# Altium integrated library Lattice SC FPGA.IntLib: 396 symbols (part 3 of 3)
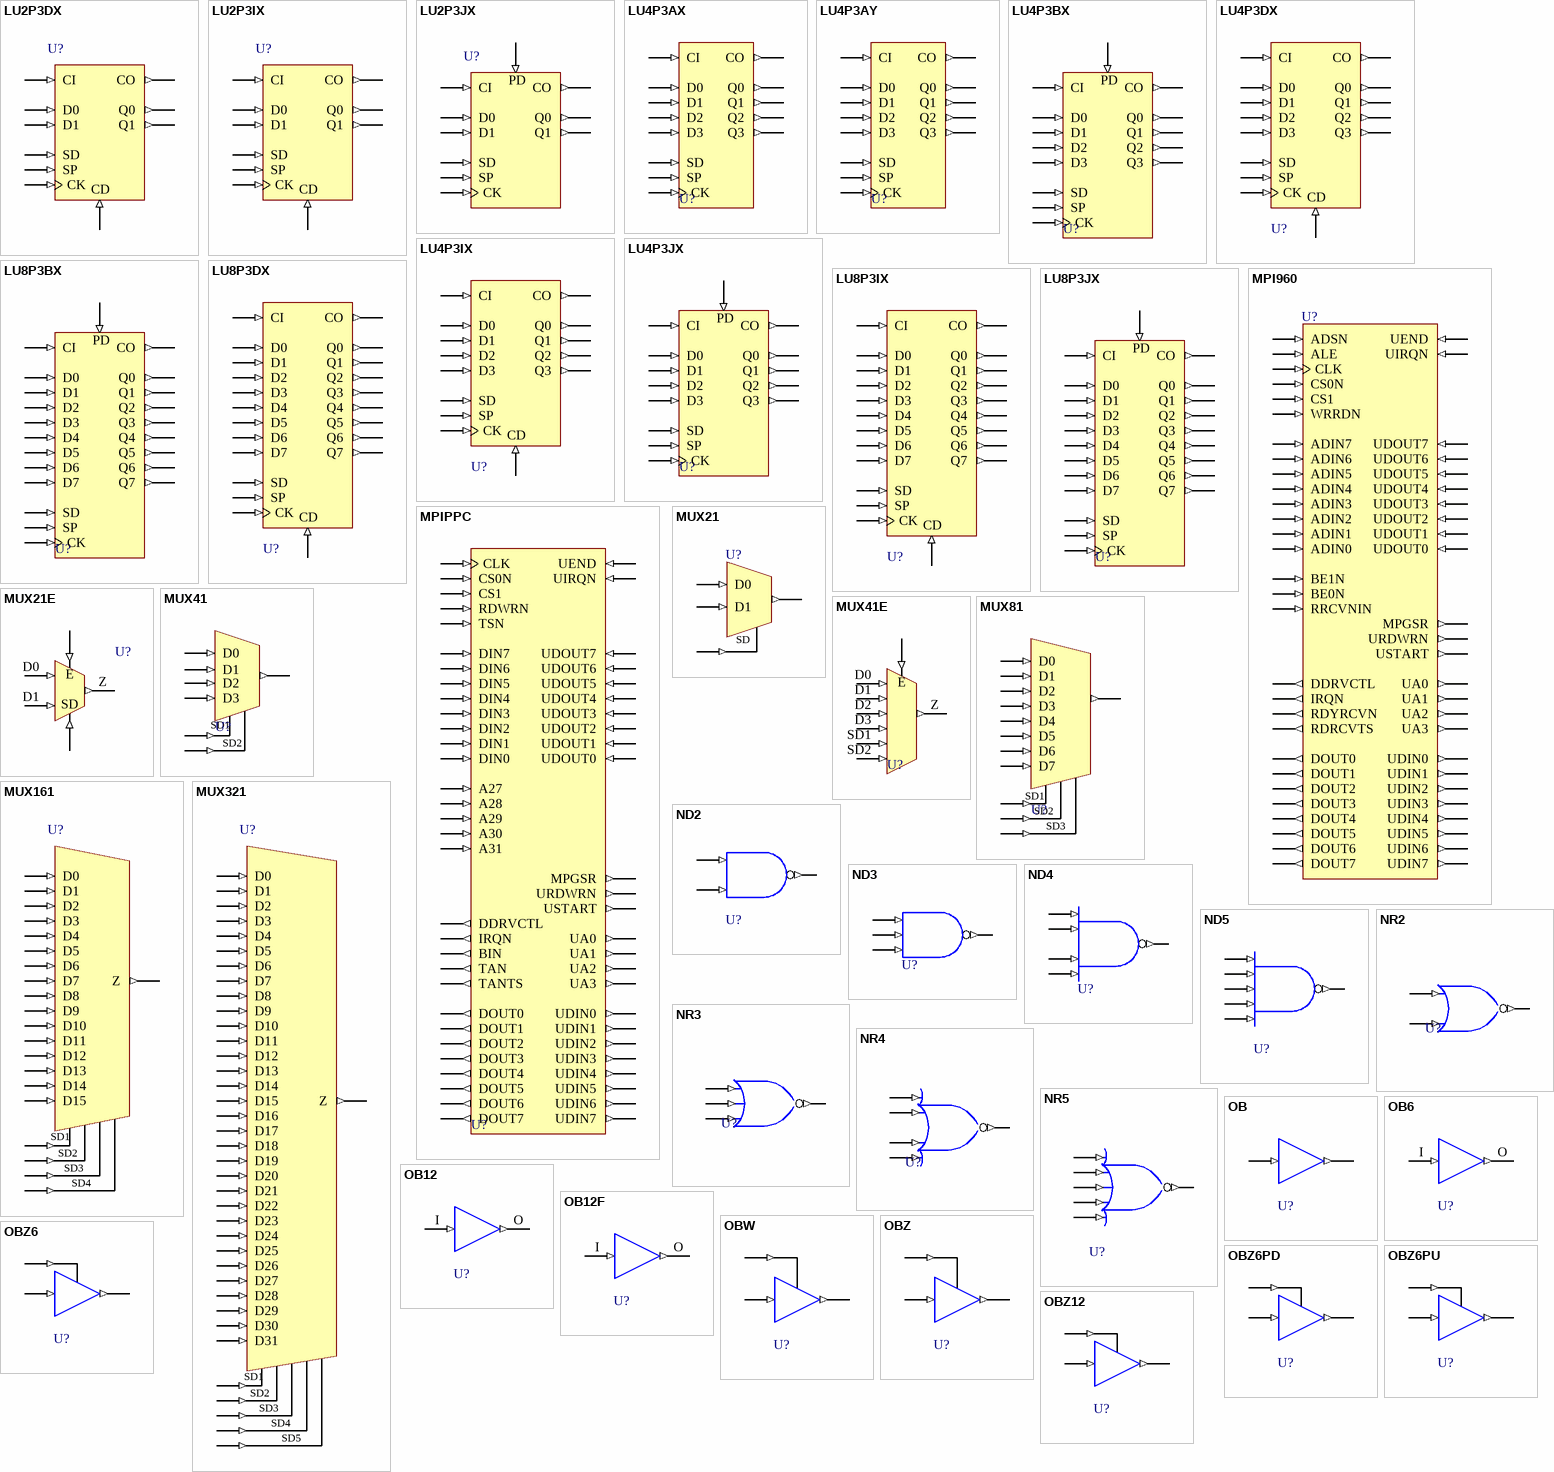
[diagram p12: symbols LU2P3DX to OBZ12]

## NR3
designator U?
3 Input NOR Gate; FPGAVendor: Lattice; Published: 4-May-2007; Publisher: Altium Limited; HelpURL: http://www.latticesemi.com/lit/docs/manuals/library.pdf
pins: A (in), B (in), C (in), Z (out)

## NR4
designator U?
4 Input NOR Gate; FPGAVendor: Lattice; Published: 4-May-2007; Publisher: Altium Limited; HelpURL: http://www.latticesemi.com/lit/docs/manuals/library.pdf
pins: A (in), B (in), C (in), D (in), Z (out)

## NR5
designator U?
5 Input NOR Gate; FPGAVendor: Lattice; Published: 4-May-2007; Publisher: Altium Limited; HelpURL: http://www.latticesemi.com/lit/docs/manuals/library.pdf
pins: A (in), B (in), C (in), D (in), E (in), Z (out)

## OB
designator U?
Output Tristate Buffer; FPGAVendor: Lattice; Published: 4-May-2007; Publisher: Altium Limited; HelpURL: http://www.latticesemi.com/lit/docs/manuals/library.pdf
pins: I (in), O (out)

## OB6
designator U?
6mA Sink 3mA Source Sinklim Output Buffer; FPGAVendor: Lattice; Published: 4-May-2007; Publisher: Altium Limited; HelpURL: http://www.latticesemi.com/lit/docs/manuals/library.pdf
pins: I (in), O (out)

## OB12
designator U?
12mA Sink 6mA Source Slewlim Output Buffer; FPGAVendor: Lattice; Published: 4-May-2007; Publisher: Altium Limited; HelpURL: http://www.latticesemi.com/lit/docs/manuals/library.pdf
pins: I (in), O (out)

## OB12F
designator U?
12mA Sink 6mA Source Fast Output Buffer; FPGAVendor: Lattice; Published: 4-May-2007; Publisher: Altium Limited; HelpURL: http://www.latticesemi.com/lit/docs/manuals/library.pdf
pins: I (in), O (out)

## OBW
designator U?
Output Buffer with Tristate; FPGAVendor: Lattice; Published: 4-May-2007; Publisher: Altium Limited; HelpURL: http://www.latticesemi.com/lit/docs/manuals/library.pdf
pins: I (in), O (out), T (in)

## OBZ
designator U?
Output Buffer with Tristate; FPGAVendor: Lattice; Published: 4-May-2007; Publisher: Altium Limited; HelpURL: http://www.latticesemi.com/lit/docs/manuals/library.pdf
pins: I (in), O (out), T (in)

## OBZ6
designator U?
6mA Sink 3mA Source Sinklim Output Buffer with Tristate; FPGAVendor: Lattice; Published: 4-May-2007; Publisher: Altium Limited; HelpURL: http://www.latticesemi.com/lit/docs/manuals/library.pdf
pins: I (in), O (out), T (in)

## OBZ6PD
designator U?
6mA Sink 3mA Source Sinklim Output Buffer with Tristate and Pull-down; FPGAVendor: Lattice; Published: 4-May-2007; Publisher: Altium Limited; HelpURL: http://www.latticesemi.com/lit/docs/manuals/library.pdf
pins: I (in), O (out), T (in)

## OBZ6PU
designator U?
6mA Sink 3mA Source Sinklim Output Buffer with Tristate and Pull-up; FPGAVendor: Lattice; Published: 4-May-2007; Publisher: Altium Limited; HelpURL: http://www.latticesemi.com/lit/docs/manuals/library.pdf
pins: I (in), O (out), T (in)

## OBZ12
designator U?
12mA Sink 6mA Source Slewlim Output Buffer with Tristate; FPGAVendor: Lattice; Published: 4-May-2007; Publisher: Altium Limited; HelpURL: http://www.latticesemi.com/lit/docs/manuals/library.pdf
pins: I (in), O (out), T (in)

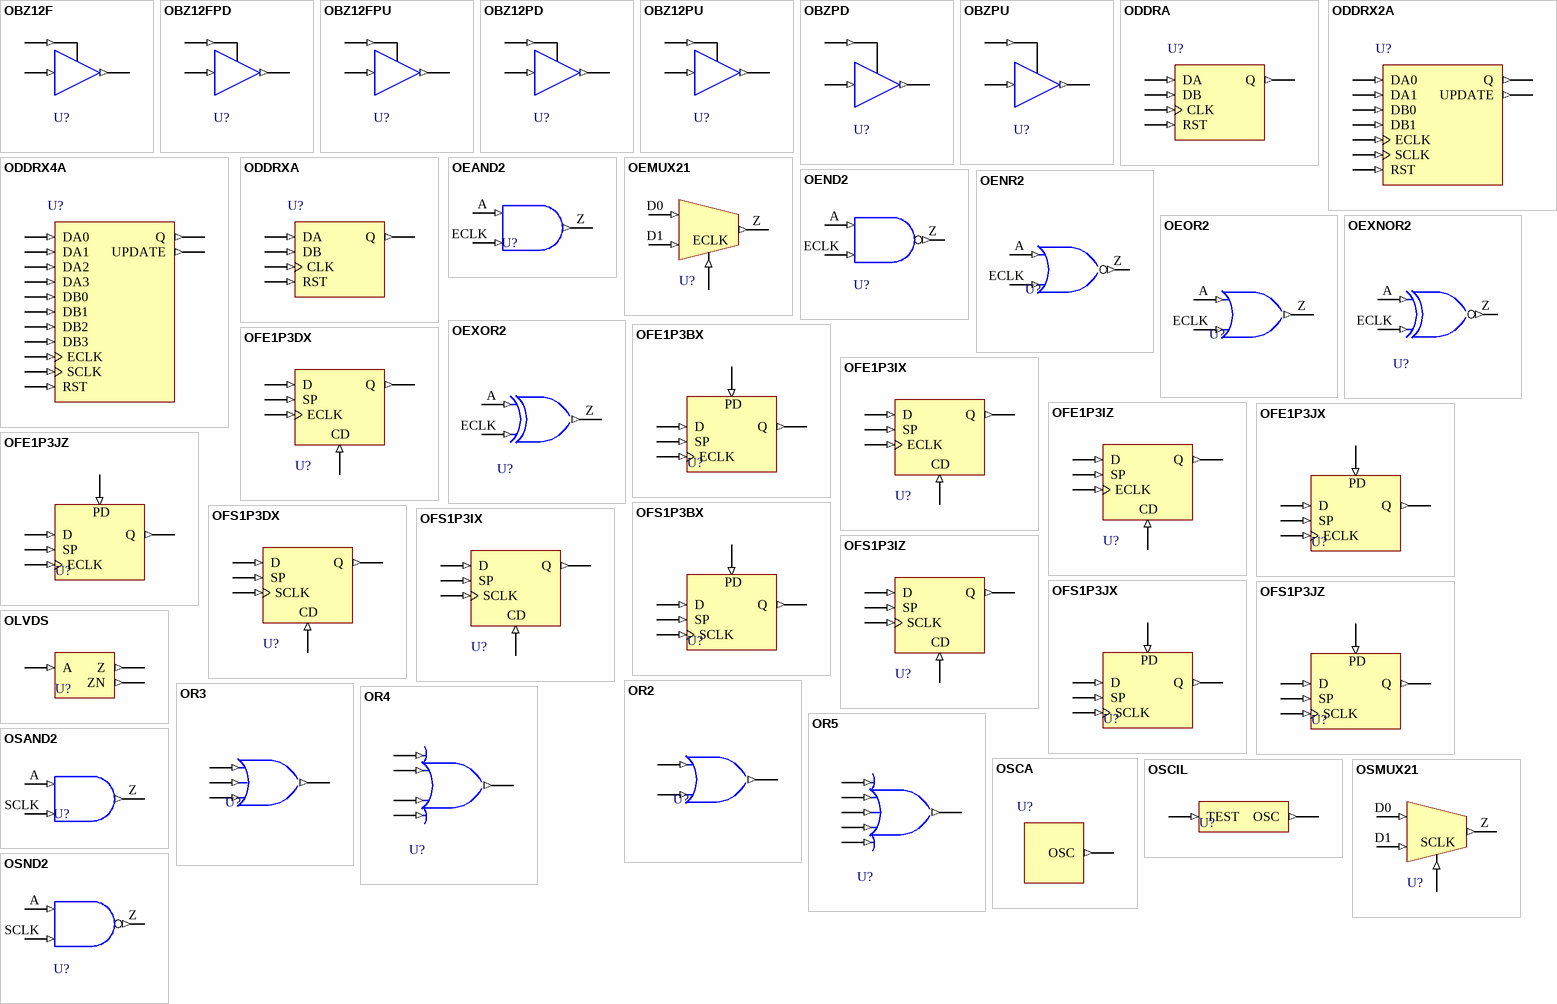
[diagram p8: symbols OBZ12F to OSND2]

## OBZ12F
designator U?
12mA Sink 6mA Source Fast Output Buffer with Tristate; FPGAVendor: Lattice; Published: 4-May-2007; Publisher: Altium Limited; HelpURL: http://www.latticesemi.com/lit/docs/manuals/library.pdf
pins: I (in), O (out), T (in)

## OBZ12FPD
designator U?
12mA Sink 6mA Source Fast Output Buffer with Tristate and Pull-down; FPGAVendor: Lattice; Published: 4-May-2007; Publisher: Altium Limited; HelpURL: http://www.latticesemi.com/lit/docs/manuals/library.pdf
pins: I (in), O (out), T (in)

## OBZ12FPU
designator U?
12mA Sink 6mA Source Fast Output Buffer with Tristate and Pull-up; FPGAVendor: Lattice; Published: 4-May-2007; Publisher: Altium Limited; HelpURL: http://www.latticesemi.com/lit/docs/manuals/library.pdf
pins: I (in), O (out), T (in)

## OBZ12PD
designator U?
12mA Sink 6mA Source Slewlim Output Buffer with Tristate and Pull-down; FPGAVendor: Lattice; Published: 4-May-2007; Publisher: Altium Limited; HelpURL: http://www.latticesemi.com/lit/docs/manuals/library.pdf
pins: I (in), O (out), T (in)

## OBZ12PU
designator U?
12mA Sink 6mA Source Slewlim Output Buffer with Tristate and Pull-up; FPGAVendor: Lattice; Published: 4-May-2007; Publisher: Altium Limited; HelpURL: http://www.latticesemi.com/lit/docs/manuals/library.pdf
pins: I (in), O (out), T (in)

## OBZPD
designator U?
Output Buffer with Tristate and Pull-down; FPGAVendor: Lattice; Published: 4-May-2007; Publisher: Altium Limited; HelpURL: http://www.latticesemi.com/lit/docs/manuals/library.pdf
pins: I (in), O (out), T (in)

## OBZPU
designator U?
Output Buffer with Tristate and Pull-up; FPGAVendor: Lattice; Published: 4-May-2007; Publisher: Altium Limited; HelpURL: http://www.latticesemi.com/lit/docs/manuals/library.pdf
pins: I (in), O (out), T (in)

## ODDRA
designator U?
Output DDR; FPGAVendor: Lattice; Published: 4-May-2007; Publisher: Altium Limited; HelpURL: http://www.latticesemi.com/lit/docs/manuals/library.pdf
pins: CLK (in), DA (in), DB (in), Q (out), RST (in)

## ODDRX2A
designator U?
Output DDR; FPGAVendor: Lattice; Published: 4-May-2007; Publisher: Altium Limited; HelpURL: http://www.latticesemi.com/lit/docs/manuals/library.pdf
pins: DA0 (in), DA1 (in), DB0 (in), DB1 (in), ECLK (in), Q (out), RST (in), SCLK (in), UPDATE (out)

## ODDRX4A
designator U?
Output DDR; FPGAVendor: Lattice; Published: 4-May-2007; Publisher: Altium Limited; HelpURL: http://www.latticesemi.com/lit/docs/manuals/library.pdf
pins: DA0 (in), DA1 (in), DA2 (in), DA3 (in), DB0 (in), DB1 (in), DB2 (in), DB3 (in), ECLK (in), Q (out), RST (in), SCLK (in), UPDATE (out)

## ODDRXA
designator U?
Output DDR; FPGAVendor: Lattice; Published: 4-May-2007; Publisher: Altium Limited; HelpURL: http://www.latticesemi.com/lit/docs/manuals/library.pdf
pins: CLK (in), DA (in), DB (in), Q (out), RST (in)

## OEAND2
designator U?
2 Input AND Gate with Express Clock (used in PIC area only); FPGAVendor: Lattice; Published: 4-May-2007; Publisher: Altium Limited; HelpURL: http://www.latticesemi.com/lit/docs/manuals/library.pdf
pins: A (in), ECLK (in), Z (out)

## OEMUX21
designator U?
2 to 1 Mux with Express Clock (used in PIC area only); FPGAVendor: Lattice; Published: 4-May-2007; Publisher: Altium Limited; HelpURL: http://www.latticesemi.com/lit/docs/manuals/library.pdf
pins: D0 (in), D1 (in), ECLK (in), Z (out)

## OEND2
designator U?
2 Input NAND Gate with Express Clock (used in PIC area only); FPGAVendor: Lattice; Published: 4-May-2007; Publisher: Altium Limited; HelpURL: http://www.latticesemi.com/lit/docs/manuals/library.pdf
pins: A (in), ECLK (in), Z (out)

## OENR2
designator U?
2 Input NOR Gate with Express Clock (used in PIC area only); FPGAVendor: Lattice; Published: 4-May-2007; Publisher: Altium Limited; HelpURL: http://www.latticesemi.com/lit/docs/manuals/library.pdf
pins: A (in), ECLK (in), Z (out)

## OEOR2
designator U?
2 Input OR Gate with Express Clock (used in PIC area only); FPGAVendor: Lattice; Published: 4-May-2007; Publisher: Altium Limited; HelpURL: http://www.latticesemi.com/lit/docs/manuals/library.pdf
pins: A (in), ECLK (in), Z (out)

## OEXNOR2
designator U?
2 Input Exclusive NOR Gate with Express Clock (used in PIC area only); FPGAVendor: Lattice; Published: 4-May-2007; Publisher: Altium Limited; HelpURL: http://www.latticesemi.com/lit/docs/manuals/library.pdf
pins: A (in), ECLK (in), Z (out)

## OEXOR2
designator U?
2 Input Exclusive OR Gate with Express Clock (used in PIC area only); FPGAVendor: Lattice; Published: 4-May-2007; Publisher: Altium Limited; HelpURL: http://www.latticesemi.com/lit/docs/manuals/library.pdf
pins: A (in), ECLK (in), Z (out)

## OFE1P3BX
designator U?
Positive Edge Triggered D Flip-Flop with Positive Level Enable, Positive Level Asynchronous Preset, and Express Clock (used in output PIC area only); FPGAVendor: Lattice; Published: 4-May-2007; Publisher: Altium Limited; HelpURL: http://www.latticesemi.com/lit/docs/manuals/library.pdf
pins: D (in), ECLK (in), PD (in), Q (out), SP (in)

## OFE1P3DX
designator U?
Positive Edge Triggered D Flip-Flop with Positive Level Enable, Positive Level Asynchronous Clear, and Express Clock (used in output PIC area only); FPGAVendor: Lattice; Published: 4-May-2007; Publisher: Altium Limited; HelpURL: http://www.latticesemi.com/lit/docs/manuals/library.pdf
pins: CD (in), D (in), ECLK (in), Q (out), SP (in)

## OFE1P3IX
designator U?
Positive Edge Triggered D Flip-Flop with Positive Level Synchronous Clear, Positive Level Enable (Clear overrides Enable), and Express Clock (used in output PIC area only); FPGAVendor: Lattice; Published: 4-May-2007; Publisher: Altium Limited; HelpURL: http://www.latticesemi.com/lit/docs/manuals/library.pdf
pins: CD (in), D (in), ECLK (in), Q (out), SP (in)

## OFE1P3IZ
designator U?
Positive Edge Triggered D Flip-Flop with Positive Level Enable, Positive Level Synchronous Clear, and Express Clock (used in output PIC area only); FPGAVendor: Lattice; Published: 4-May-2007; Publisher: Altium Limited; HelpURL: http://www.latticesemi.com/lit/docs/manuals/library.pdf
pins: CD (in), D (in), ECLK (in), Q (out), SP (in)

## OFE1P3JX
designator U?
Positive Edge Triggered D Flip-Flop with Positive Level Synchronous Preset, Positive Level Enable (Preset overrides Enable), and Express Clock (used in output PIC area only); FPGAVendor: Lattice; Published: 4-May-2007; Publisher: Altium Limited; HelpURL: http://www.latticesemi.com/lit/docs/manuals/library.pdf
pins: D (in), ECLK (in), PD (in), Q (out), SP (in)

## OFE1P3JZ
designator U?
Positive Edge Triggered D Flip-Flop with Positive Level Enable, Positive Level Synchronous Preset, and Express Clock (used in output PIC area only); FPGAVendor: Lattice; Published: 4-May-2007; Publisher: Altium Limited; HelpURL: http://www.latticesemi.com/lit/docs/manuals/library.pdf
pins: D (in), ECLK (in), PD (in), Q (out), SP (in)

## OFS1P3BX
designator U?
Positive Edge Triggered D Flip-Flop with Positive Level Enable, Positive Level Asynchronous Preset, and System Clock (used in output PIC area only); FPGAVendor: Lattice; Published: 4-May-2007; Publisher: Altium Limited; HelpURL: http://www.latticesemi.com/lit/docs/manuals/library.pdf
pins: D (in), PD (in), Q (out), SCLK (in), SP (in)

## OFS1P3DX
designator U?
Positive Edge Triggered D Flip-Flop with Positive Level Enable, Positive Level Asynchronous Clear, and System Clock (used in output PIC area only); FPGAVendor: Lattice; Published: 4-May-2007; Publisher: Altium Limited; HelpURL: http://www.latticesemi.com/lit/docs/manuals/library.pdf
pins: CD (in), D (in), Q (out), SCLK (in), SP (in)

## OFS1P3IX
designator U?
Positive Edge Triggered D Flip-Flop with Positive Level Synchronous Clear, Positive Level Enable (Clear overrides Enable), and System Clock (used in output PIC area only); FPGAVendor: Lattice; Published: 4-May-2007; Publisher: Altium Limited; HelpURL: http://www.latticesemi.com/lit/docs/manuals/library.pdf
pins: CD (in), D (in), Q (out), SCLK (in), SP (in)

## OFS1P3IZ
designator U?
Positive Edge Triggered D Flip-Flop with Positive Level Enable, Positive Level Synchronous Clear, and System Clock (used in output PIC area only); FPGAVendor: Lattice; Published: 4-May-2007; Publisher: Altium Limited; HelpURL: http://www.latticesemi.com/lit/docs/manuals/library.pdf
pins: CD (in), D (in), Q (out), SCLK (in), SP (in)

## OFS1P3JX
designator U?
Positive Edge Triggered D Flip-Flop with Positive Level Synchronous Preset, Positive Level Enable (Preset overrides Enable), and System Clock (used in output PIC area only); FPGAVendor: Lattice; Published: 4-May-2007; Publisher: Altium Limited; HelpURL: http://www.latticesemi.com/lit/docs/manuals/library.pdf
pins: D (in), PD (in), Q (out), SCLK (in), SP (in)

## OFS1P3JZ
designator U?
Positive Edge Triggered D Flip-Flop with Positive Level Enable, Positive Level Synchronous Preset, and System Clock (used in output PIC area only); FPGAVendor: Lattice; Published: 4-May-2007; Publisher: Altium Limited; HelpURL: http://www.latticesemi.com/lit/docs/manuals/library.pdf
pins: D (in), PD (in), Q (out), SCLK (in), SP (in)

## OLVDS
designator U?
LVDS Output Buffer; FPGAVendor: Lattice; Published: 4-May-2007; Publisher: Altium Limited; HelpURL: http://www.latticesemi.com/lit/docs/manuals/library.pdf
pins: A (in), Z (out), ZN (out)

## OR2
designator U?
2 Input OR Gate; FPGAVendor: Lattice; Published: 4-May-2007; Publisher: Altium Limited; HelpURL: http://www.latticesemi.com/lit/docs/manuals/library.pdf
pins: A (in), B (in), Z (out)

## OR3
designator U?
3 Input OR Gate; FPGAVendor: Lattice; Published: 4-May-2007; Publisher: Altium Limited; HelpURL: http://www.latticesemi.com/lit/docs/manuals/library.pdf
pins: A (in), B (in), C (in), Z (out)

## OR4
designator U?
4 Input OR Gate; FPGAVendor: Lattice; Published: 4-May-2007; Publisher: Altium Limited; HelpURL: http://www.latticesemi.com/lit/docs/manuals/library.pdf
pins: A (in), B (in), C (in), D (in), Z (out)

## OR5
designator U?
5 Input OR Gate; FPGAVendor: Lattice; Published: 4-May-2007; Publisher: Altium Limited; HelpURL: http://www.latticesemi.com/lit/docs/manuals/library.pdf
pins: A (in), B (in), C (in), D (in), E (in), Z (out)

## OSAND2
designator U?
2 Input AND Gate with System Clock (used in PIC area only); FPGAVendor: Lattice; Published: 4-May-2007; Publisher: Altium Limited; HelpURL: http://www.latticesemi.com/lit/docs/manuals/library.pdf
pins: A (in), SCLK (in), Z (out)

## OSCA
designator U?
Internal Oscillator; FPGAVendor: Lattice; Published: 4-May-2007; Publisher: Altium Limited; HelpURL: http://www.latticesemi.com/lit/docs/manuals/library.pdf
pins: OSC (out)

## OSCIL
designator U?
Internal Oscillator; FPGAVendor: Lattice; Published: 4-May-2007; Publisher: Altium Limited; HelpURL: http://www.latticesemi.com/lit/docs/manuals/library.pdf
pins: OSC (out), TEST (in)

## OSMUX21
designator U?
2 to 1 Mux with System Clock (used in PIC area only); FPGAVendor: Lattice; Published: 4-May-2007; Publisher: Altium Limited; HelpURL: http://www.latticesemi.com/lit/docs/manuals/library.pdf
pins: D0 (in), D1 (in), SCLK (in), Z (out)

## OSND2
designator U?
2 Input NAND Gate with System Clock (used in PIC area only); FPGAVendor: Lattice; Published: 4-May-2007; Publisher: Altium Limited; HelpURL: http://www.latticesemi.com/lit/docs/manuals/library.pdf
pins: A (in), SCLK (in), Z (out)

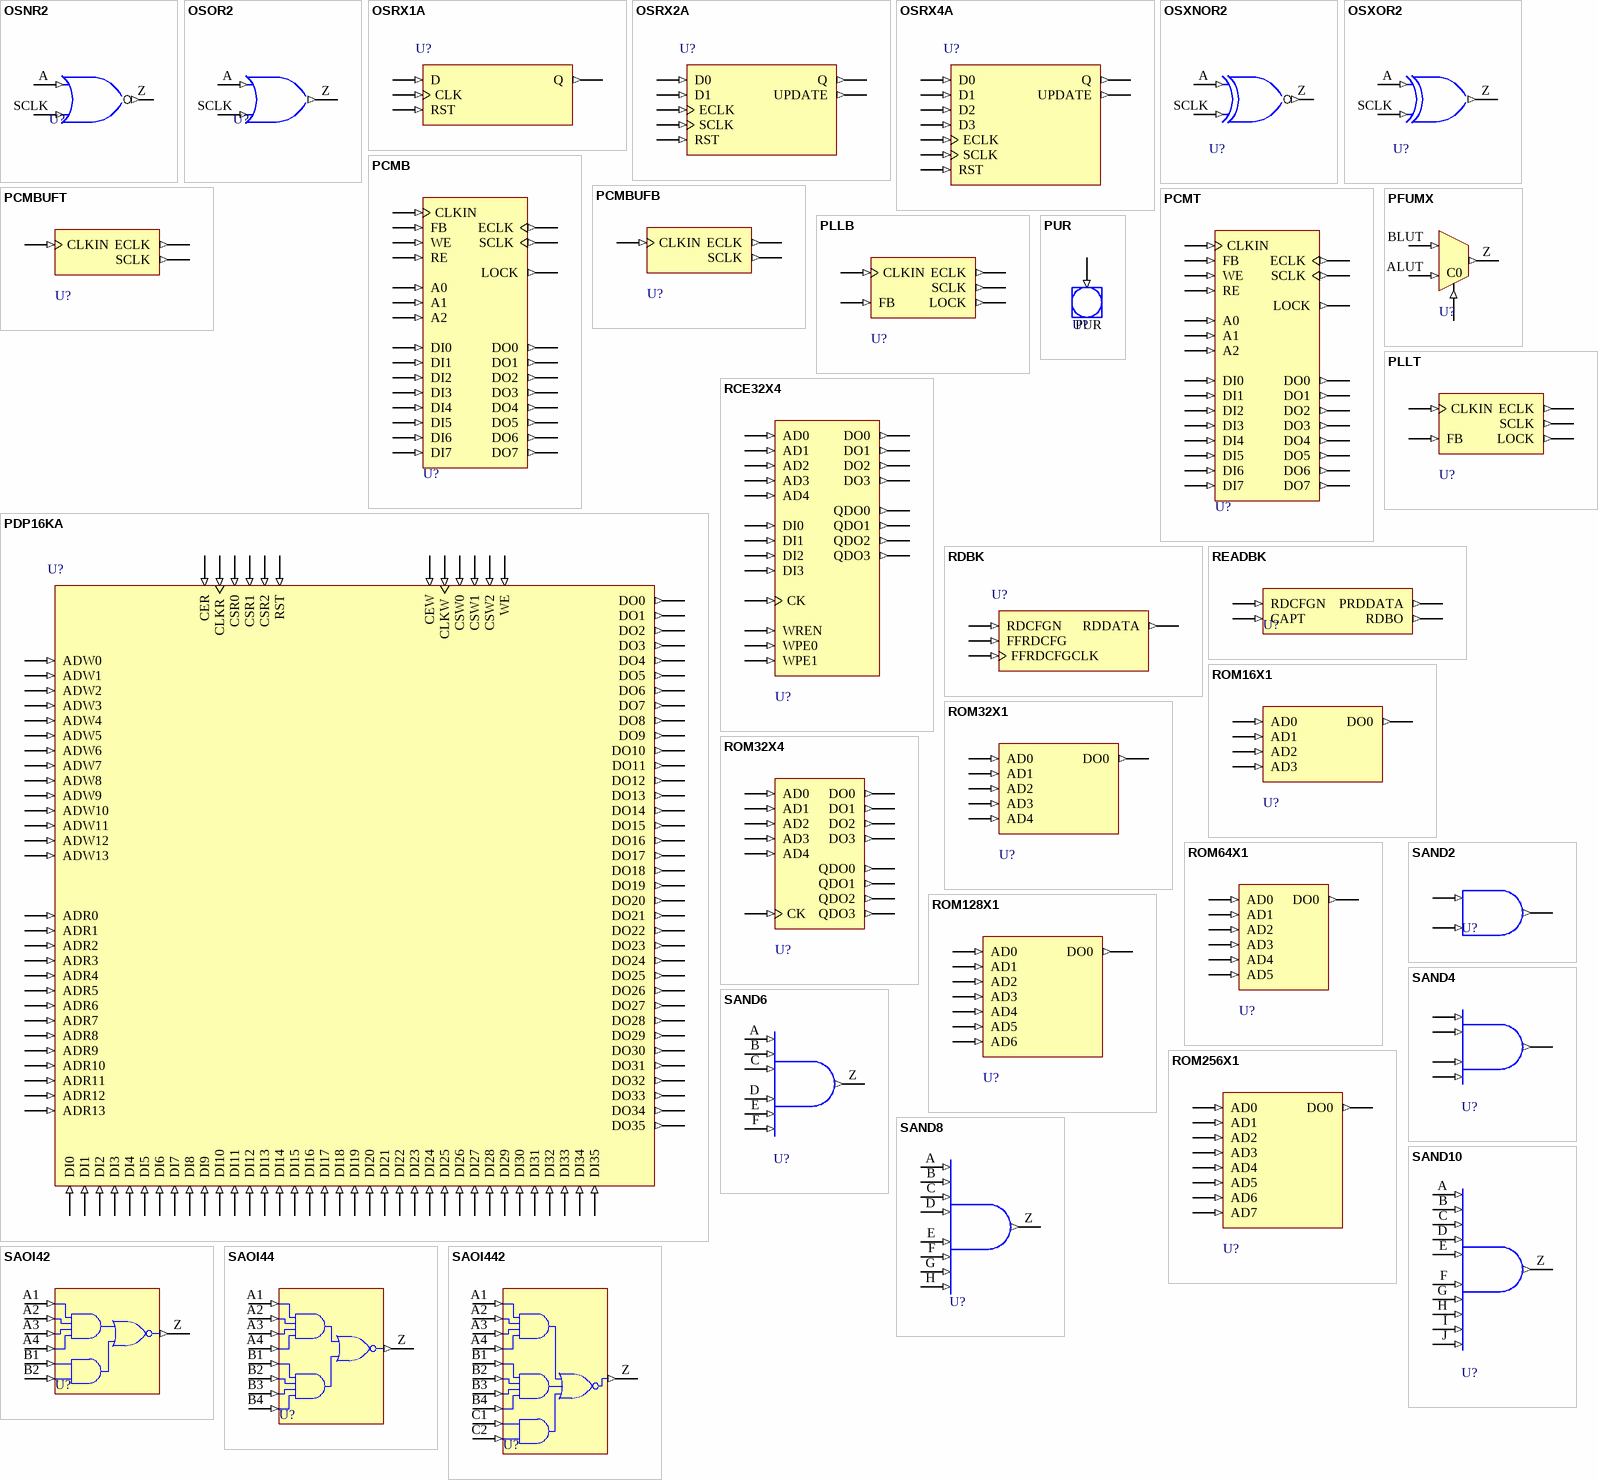
[diagram p9: symbols OSNR2 to SAOI442]

## OSNR2
designator U?
2 Input NOR Gate with System Clock (used in PIC area only); FPGAVendor: Lattice; Published: 4-May-2007; Publisher: Altium Limited; HelpURL: http://www.latticesemi.com/lit/docs/manuals/library.pdf
pins: A (in), SCLK (in), Z (out)

## OSOR2
designator U?
2 Input OR Gate with System Clock (used in PIC area only); FPGAVendor: Lattice; Published: 4-May-2007; Publisher: Altium Limited; HelpURL: http://www.latticesemi.com/lit/docs/manuals/library.pdf
pins: A (in), SCLK (in), Z (out)

## OSRX1A
designator U?
Output 1-Bit Shift Register; FPGAVendor: Lattice; Published: 4-May-2007; Publisher: Altium Limited; HelpURL: http://www.latticesemi.com/lit/docs/manuals/library.pdf
pins: CLK (in), D (in), Q (out), RST (in)

## OSRX2A
designator U?
Output 2-Bit Shift Register; FPGAVendor: Lattice; Published: 4-May-2007; Publisher: Altium Limited; HelpURL: http://www.latticesemi.com/lit/docs/manuals/library.pdf
pins: D0 (in), D1 (in), ECLK (in), Q (out), RST (in), SCLK (in), UPDATE (out)

## OSRX4A
designator U?
Output 4-Bit Shift Register; FPGAVendor: Lattice; Published: 4-May-2007; Publisher: Altium Limited; HelpURL: http://www.latticesemi.com/lit/docs/manuals/library.pdf
pins: D0 (in), D1 (in), D2 (in), D3 (in), ECLK (in), Q (out), RST (in), SCLK (in), UPDATE (out)

## OSXNOR2
designator U?
2 Input Exclusive NOR Gate with System Clock (used in PIC area only); FPGAVendor: Lattice; Published: 4-May-2007; Publisher: Altium Limited; HelpURL: http://www.latticesemi.com/lit/docs/manuals/library.pdf
pins: A (in), SCLK (in), Z (out)

## OSXOR2
designator U?
2 Input Exclusive OR Gate with System Clock (used in PIC area only); FPGAVendor: Lattice; Published: 4-May-2007; Publisher: Altium Limited; HelpURL: http://www.latticesemi.com/lit/docs/manuals/library.pdf
pins: A (in), SCLK (in), Z (out)

## PCMB
designator U?
Programmable Clock Manager – Bottom; FPGAVendor: Lattice; Published: 4-May-2007; Publisher: Altium Limited; HelpURL: http://www.latticesemi.com/lit/docs/manuals/library.pdf
pins: A0 (in), A1 (in), A2 (in), CLKIN (in), DI0 (in), DI1 (in), DI2 (in), DI3 (in), DI4 (in), DI5 (in), DI6 (in), DI7 (in), DO0 (out), DO1 (out), DO2 (out), DO3 (out), DO4 (out), DO5 (out), DO6 (out), DO7 (out), ECLK (out), FB (in), LOCK (out), RE (in), SCLK (out), WE (in)

## PCMBUFB
designator U?
Programmable Clock Manager in Bypass Mode – Bottom; FPGAVendor: Lattice; Published: 4-May-2007; Publisher: Altium Limited; HelpURL: http://www.latticesemi.com/lit/docs/manuals/library.pdf
pins: CLKIN (in), ECLK (out), SCLK (out)

## PCMBUFT
designator U?
Programmable Clock Manager in Bypass Mode – Top; FPGAVendor: Lattice; Published: 4-May-2007; Publisher: Altium Limited; HelpURL: http://www.latticesemi.com/lit/docs/manuals/library.pdf
pins: CLKIN (in), ECLK (out), SCLK (out)

## PCMT
designator U?
Programmable Clock Manager – Top; FPGAVendor: Lattice; Published: 4-May-2007; Publisher: Altium Limited; HelpURL: http://www.latticesemi.com/lit/docs/manuals/library.pdf
pins: A0 (in), A1 (in), A2 (in), CLKIN (in), DI0 (in), DI1 (in), DI2 (in), DI3 (in), DI4 (in), DI5 (in), DI6 (in), DI7 (in), DO0 (out), DO1 (out), DO2 (out), DO3 (out), DO4 (out), DO5 (out), DO6 (out), DO7 (out), ECLK (out), FB (in), LOCK (out), RE (in), SCLK (out), WE (in)

## PDP16KA
designator U?
16K Pseudo Dual Port Block RAM; FPGAVendor: Lattice; Published: 4-May-2007; Publisher: Altium Limited; HelpURL: http://www.latticesemi.com/lit/docs/manuals/library.pdf
pins: ADR0 (in), ADR1 (in), ADR2 (in), ADR3 (in), ADR4 (in), ADR5 (in), ADR6 (in), ADR7 (in), ADR8 (in), ADR9 (in), ADR10 (in), ADR11 (in), ADR12 (in), ADR13 (in), ADW0 (in), ADW1 (in), ADW2 (in), ADW3 (in), ADW4 (in), ADW5 (in), ADW6 (in), ADW7 (in), ADW8 (in), ADW9 (in), ADW10 (in), ADW11 (in), ADW12 (in), ADW13 (in), CER (in), CEW (in), CLKR (in), CLKW (in), CSR0 (in), CSR1 (in), CSR2 (in), CSW0 (in), CSW1 (in), CSW2 (in), DI0 (in), DI1 (in), DI2 (in), DI3 (in), DI4 (in), DI5 (in), DI6 (in), DI7 (in), DI8 (in), DI9 (in), DI10 (in), DI11 (in), DI12 (in), DI13 (in), DI14 (in), DI15 (in), DI16 (in), DI17 (in), DI18 (in), DI19 (in), DI20 (in), DI21 (in), DI22 (in), DI23 (in), DI24 (in), DI25 (in), DI26 (in), DI27 (in), DI28 (in), DI29 (in), DI30 (in), DI31 (in), DI32 (in), DI33 (in), DI34 (in), DI35 (in), DO0 (out), DO1 (out), DO2 (out), DO3 (out), DO4 (out), DO5 (out), DO6 (out), DO7 (out), DO8 (out), DO9 (out), DO10 (out), DO11 (out), DO12 (out), DO13 (out), DO14 (out), DO15 (out), DO16 (out), DO17 (out), DO18 (out), DO19 (out), DO20 (out), DO21 (out), DO22 (out), DO23 (out), DO24 (out), DO25 (out), DO26 (out), DO27 (out), DO28 (out), DO29 (out), DO30 (out), DO31 (out), DO32 (out), DO33 (out), DO34 (out), DO35 (out), RST (in), WE (in)

## PFUMX
designator U?
2-Input Mux within the PFU, C0 used for Selection with Positive Select; FPGAVendor: Lattice; Published: 4-May-2007; Publisher: Altium Limited; HelpURL: http://www.latticesemi.com/lit/docs/manuals/library.pdf
pins: ALUT (in), BLUT (in), C0 (in), Z (out)

## PLLB
designator U?
Programmable Clock Manager (Phase Locked Loop) — Bottom; FPGAVendor: Lattice; Published: 4-May-2007; Publisher: Altium Limited; HelpURL: http://www.latticesemi.com/lit/docs/manuals/library.pdf
pins: CLKIN (in), ECLK (out), FB (in), LOCK (out), SCLK (out)

## PLLT
designator U?
Programmable Clock Manager (Phase Locked Loop) — Top; FPGAVendor: Lattice; Published: 4-May-2007; Publisher: Altium Limited; HelpURL: http://www.latticesemi.com/lit/docs/manuals/library.pdf
pins: CLKIN (in), ECLK (out), FB (in), LOCK (out), SCLK (out)

## PUR
designator U?
Power Up Set/Reset (Registers in Microprocessor Interface); FPGAVendor: Lattice; Published: 4-May-2007; Publisher: Altium Limited; HelpURL: http://www.latticesemi.com/lit/docs/manuals/library.pdf
pins: PUR (in)

## RCE32X4
designator U?
32 Word by 4 Bit Negative Edge Triggered Write Synchronous Single Port Memory with Positive Write Enable and Two Positive Write Port Enables; FPGAVendor: Lattice; Published: 4-May-2007; Publisher: Altium Limited; HelpURL: http://www.latticesemi.com/lit/docs/manuals/library.pdf
pins: AD0 (in), AD1 (in), AD2 (in), AD3 (in), AD4 (in), CK (in), DI0 (in), DI1 (in), DI2 (in), DI3 (in), DO0 (out), DO1 (out), DO2 (out), DO3 (out), QDO0 (out), QDO1 (out), QDO2 (out), QDO3 (out), WPE0 (in), WPE1 (in), WREN (in)

## RDBK
designator U?
Readback Controller; FPGAVendor: Lattice; Published: 4-May-2007; Publisher: Altium Limited; HelpURL: http://www.latticesemi.com/lit/docs/manuals/library.pdf
pins: FFRDCFG (in), FFRDCFGCLK (in), RDCFGN (in), RDDATA (out)

## READBK
designator U?
Readback Controller; FPGAVendor: Lattice; Published: 4-May-2007; Publisher: Altium Limited; HelpURL: http://www.latticesemi.com/lit/docs/manuals/library.pdf
pins: CAPT (in), PRDDATA (out), RDBO (out), RDCFGN (in)

## ROM16X1
designator U?
16 Word by 1 Bit Read-Only Memory; FPGAVendor: Lattice; Published: 4-May-2007; Publisher: Altium Limited; HelpURL: http://www.latticesemi.com/lit/docs/manuals/library.pdf
pins: AD0 (in), AD1 (in), AD2 (in), AD3 (in), DO0 (out)

## ROM32X1
designator U?
32 Word by 1 Bit Read-Only Memory; FPGAVendor: Lattice; Published: 4-May-2007; Publisher: Altium Limited; HelpURL: http://www.latticesemi.com/lit/docs/manuals/library.pdf
pins: AD0 (in), AD1 (in), AD2 (in), AD3 (in), AD4 (in), DO0 (out)

## ROM32X4
designator U?
32 Word by 4 Bit Positive Edge Triggered Read-Only Memory with Registered Data Outputs; FPGAVendor: Lattice; Published: 4-May-2007; Publisher: Altium Limited; HelpURL: http://www.latticesemi.com/lit/docs/manuals/library.pdf
pins: AD0 (in), AD1 (in), AD2 (in), AD3 (in), AD4 (in), CK (in), DO0 (out), DO1 (out), DO2 (out), DO3 (out), QDO0 (out), QDO1 (out), QDO2 (out), QDO3 (out)

## ROM64X1
designator U?
64 Word by 1 Bit Positive Edge Triggered Read-Only Memory with Registered Data Outputs; FPGAVendor: Lattice; Published: 4-May-2007; Publisher: Altium Limited; HelpURL: http://www.latticesemi.com/lit/docs/manuals/library.pdf
pins: AD0 (in), AD1 (in), AD2 (in), AD3 (in), AD4 (in), AD5 (in), DO0 (out)

## ROM128X1
designator U?
128 Word by 1 Bit Positive Edge Triggered Read-Only Memory with Registered Data Outputs; FPGAVendor: Lattice; Published: 4-May-2007; Publisher: Altium Limited; HelpURL: http://www.latticesemi.com/lit/docs/manuals/library.pdf
pins: AD0 (in), AD1 (in), AD2 (in), AD3 (in), AD4 (in), AD5 (in), AD6 (in), DO0 (out)

## ROM256X1
designator U?
256 Word by 1 Bit Positive Edge Triggered Read-Only Memory with Registered Data Outputs; FPGAVendor: Lattice; Published: 4-May-2007; Publisher: Altium Limited; HelpURL: http://www.latticesemi.com/lit/docs/manuals/library.pdf
pins: AD0 (in), AD1 (in), AD2 (in), AD3 (in), AD4 (in), AD5 (in), AD6 (in), AD7 (in), DO0 (out)

## SAND2
designator U?
2 Input AND Gate (used in SLIC area only); FPGAVendor: Lattice; Published: 4-May-2007; Publisher: Altium Limited; HelpURL: http://www.latticesemi.com/lit/docs/manuals/library.pdf
pins: A (in), B (in), Z (out)

## SAND4
designator U?
4 Input AND Gate (used in SLIC area only); FPGAVendor: Lattice; Published: 4-May-2007; Publisher: Altium Limited; HelpURL: http://www.latticesemi.com/lit/docs/manuals/library.pdf
pins: A (in), B (in), C (in), D (in), Z (out)

## SAND6
designator U?
6 Input AND Gate (used in SLIC area only); FPGAVendor: Lattice; Published: 4-May-2007; Publisher: Altium Limited; HelpURL: http://www.latticesemi.com/lit/docs/manuals/library.pdf
pins: A (in), B (in), C (in), D (in), E (in), F (in), Z (out)

## SAND8
designator U?
8 Input AND Gate (used in SLIC area only); FPGAVendor: Lattice; Published: 4-May-2007; Publisher: Altium Limited; HelpURL: http://www.latticesemi.com/lit/docs/manuals/library.pdf
pins: A (in), B (in), C (in), D (in), E (in), F (in), G (in), H (in), Z (out)

## SAND10
designator U?
10 Input AND Gate (used in SLIC area only); FPGAVendor: Lattice; Published: 4-May-2007; Publisher: Altium Limited; HelpURL: http://www.latticesemi.com/lit/docs/manuals/library.pdf
pins: A (in), B (in), C (in), D (in), E (in), F (in), G (in), H (in), I (in), J (in), Z (out)

## SAOI42
designator U?
AND Array to OR Inverted (used in SLIC area only); FPGAVendor: Lattice; Published: 4-May-2007; Publisher: Altium Limited; HelpURL: http://www.latticesemi.com/lit/docs/manuals/library.pdf
pins: A1 (in), A2 (in), A3 (in), A4 (in), B1 (in), B2 (in), Z (out)

## SAOI44
designator U?
AND Array to OR Inverted (used in SLIC area only); FPGAVendor: Lattice; Published: 4-May-2007; Publisher: Altium Limited; HelpURL: http://www.latticesemi.com/lit/docs/manuals/library.pdf
pins: A1 (in), A2 (in), A3 (in), A4 (in), B1 (in), B2 (in), B3 (in), B4 (in), Z (out)

## SAOI442
designator U?
AND Array to OR Inverted (used in SLIC area only); FPGAVendor: Lattice; Published: 4-May-2007; Publisher: Altium Limited; HelpURL: http://www.latticesemi.com/lit/docs/manuals/library.pdf
pins: A1 (in), A2 (in), A3 (in), A4 (in), B1 (in), B2 (in), B3 (in), B4 (in), C1 (in), C2 (in), Z (out)

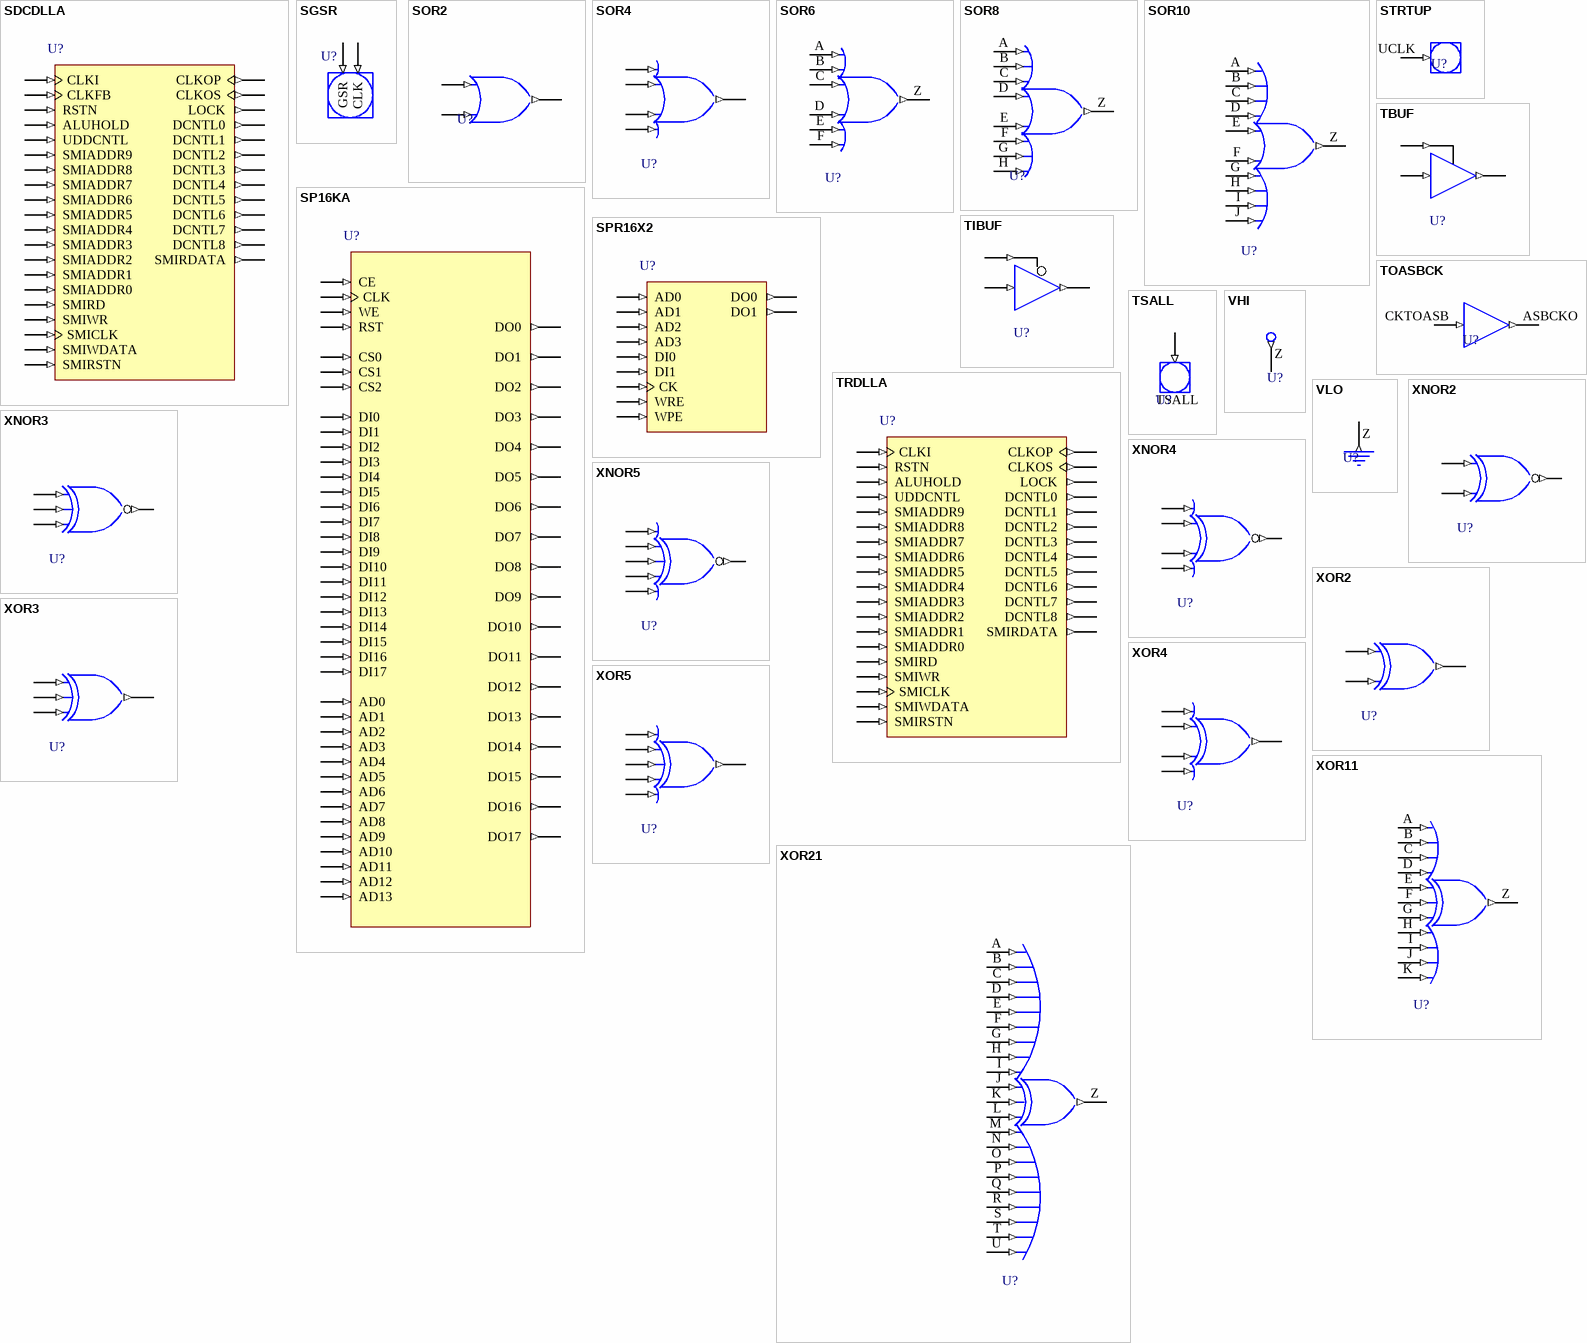
[diagram p10: symbols SDCDLLA to XOR21]

## SDCDLLA
designator U?
Single Delay Cell DLL; FPGAVendor: Lattice; Published: 4-May-2007; Publisher: Altium Limited; HelpURL: http://www.latticesemi.com/lit/docs/manuals/library.pdf
pins: ALUHOLD (in), CLKFB (in), CLKI (in), CLKOP (out), CLKOS (out), DCNTL0 (out), DCNTL1 (out), DCNTL2 (out), DCNTL3 (out), DCNTL4 (out), DCNTL5 (out), DCNTL6 (out), DCNTL7 (out), DCNTL8 (out), LOCK (out), RSTN (in), SMIADDR0 (in), SMIADDR1 (in), SMIADDR2 (in), SMIADDR3 (in), SMIADDR4 (in), SMIADDR5 (in), SMIADDR6 (in), SMIADDR7 (in), SMIADDR8 (in), SMIADDR9 (in), SMICLK (in), SMIRD (in), SMIRDATA (out), SMIRSTN (in), SMIWDATA (in), SMIWR (in), UDDCNTL (in)

## SGSR
designator U?
Synchronous Release Global Set/Reset Interface; FPGAVendor: Lattice; Published: 4-May-2007; Publisher: Altium Limited; HelpURL: http://www.latticesemi.com/lit/docs/manuals/library.pdf
pins: CLK (in), GSR (in)

## SOR2
designator U?
2 Input OR Gate (used in SLIC area only); FPGAVendor: Lattice; Published: 4-May-2007; Publisher: Altium Limited; HelpURL: http://www.latticesemi.com/lit/docs/manuals/library.pdf
pins: A (in), B (in), Z (out)

## SOR4
designator U?
4 Input OR Gate (used in SLIC area only); FPGAVendor: Lattice; Published: 4-May-2007; Publisher: Altium Limited; HelpURL: http://www.latticesemi.com/lit/docs/manuals/library.pdf
pins: A (in), B (in), C (in), D (in), Z (out)

## SOR6
designator U?
6 Input OR Gate (used in SLIC area only); FPGAVendor: Lattice; Published: 4-May-2007; Publisher: Altium Limited; HelpURL: http://www.latticesemi.com/lit/docs/manuals/library.pdf
pins: A (in), B (in), C (in), D (in), E (in), F (in), Z (out)

## SOR8
designator U?
8 Input OR Gate (used in SLIC area only); FPGAVendor: Lattice; Published: 4-May-2007; Publisher: Altium Limited; HelpURL: http://www.latticesemi.com/lit/docs/manuals/library.pdf
pins: A (in), B (in), C (in), D (in), E (in), F (in), G (in), H (in), Z (out)

## SOR10
designator U?
10 Input OR Gate (used in SLIC area only); FPGAVendor: Lattice; Published: 4-May-2007; Publisher: Altium Limited; HelpURL: http://www.latticesemi.com/lit/docs/manuals/library.pdf
pins: A (in), B (in), C (in), D (in), E (in), F (in), G (in), H (in), I (in), J (in), Z (out)

## SP16KA
designator U?
16K Single Port Block RAM; FPGAVendor: Lattice; Published: 4-May-2007; Publisher: Altium Limited; HelpURL: http://www.latticesemi.com/lit/docs/manuals/library.pdf
pins: AD0 (in), AD1 (in), AD2 (in), AD3 (in), AD4 (in), AD5 (in), AD6 (in), AD7 (in), AD8 (in), AD9 (in), AD10 (in), AD11 (in), AD12 (in), AD13 (in), CE (in), CLK (in), CS0 (in), CS1 (in), CS2 (in), DI0 (in), DI1 (in), DI2 (in), DI3 (in), DI4 (in), DI5 (in), DI6 (in), DI7 (in), DI8 (in), DI9 (in), DI10 (in), DI11 (in), DI12 (in), DI13 (in), DI14 (in), DI15 (in), DI16 (in), DI17 (in), DO0 (out), DO1 (out), DO2 (out), DO3 (out), DO4 (out), DO5 (out), DO6 (out), DO7 (out), DO8 (out), DO9 (out), DO10 (out), DO11 (out), DO12 (out), DO13 (out), DO14 (out), DO15 (out), DO16 (out), DO17 (out), RST (in), WE (in)

## SPR16X2
designator U?
16 Word by 2 Bit Positive Edge Triggered Write Synchronous Single Port RAM Memory with Positive Write Enable and Positive Write Port Enable (1-Slice); FPGAVendor: Lattice; Published: 4-May-2007; Publisher: Altium Limited; HelpURL: http://www.latticesemi.com/lit/docs/manuals/library.pdf
pins: AD0 (in), AD1 (in), AD2 (in), AD3 (in), CK (in), DI0 (in), DI1 (in), DO0 (out), DO1 (out), WPE (in), WRE (in)

## STRTUP
designator U?
Startup Controller; FPGAVendor: Lattice; Published: 4-May-2007; Publisher: Altium Limited; HelpURL: http://www.latticesemi.com/lit/docs/manuals/library.pdf
pins: UCLK (in)

## TBUF
designator U?
Internal Buffer with Tristate; FPGAVendor: Lattice; Published: 4-May-2007; Publisher: Altium Limited; HelpURL: http://www.latticesemi.com/lit/docs/manuals/library.pdf
pins: I (in), O (out), T (in)

## TIBUF
designator U?
Internal Buffer with Inverted Tristate (used in SLIC area only, for Series 3); FPGAVendor: Lattice; Published: 4-May-2007; Publisher: Altium Limited; HelpURL: http://www.latticesemi.com/lit/docs/manuals/library.pdf
pins: I (in), O (out), T (in)

## TOASBCK
designator U?
Buffer used to route clocks from FPGA to ASB along clock spine.; FPGAVendor: Lattice; Published: 4-May-2007; Publisher: Altium Limited; HelpURL: http://www.latticesemi.com/lit/docs/manuals/library.pdf
pins: ASBCKO (out), CKTOASB (in)

## TRDLLA
designator U?
Time Reference Delay; FPGAVendor: Lattice; Published: 4-May-2007; Publisher: Altium Limited; HelpURL: http://www.latticesemi.com/lit/docs/manuals/library.pdf
pins: ALUHOLD (in), CLKI (in), CLKOP (out), CLKOS (out), DCNTL0 (out), DCNTL1 (out), DCNTL2 (out), DCNTL3 (out), DCNTL4 (out), DCNTL5 (out), DCNTL6 (out), DCNTL7 (out), DCNTL8 (out), LOCK (out), RSTN (in), SMIADDR0 (in), SMIADDR1 (in), SMIADDR2 (in), SMIADDR3 (in), SMIADDR4 (in), SMIADDR5 (in), SMIADDR6 (in), SMIADDR7 (in), SMIADDR8 (in), SMIADDR9 (in), SMICLK (in), SMIRD (in), SMIRDATA (out), SMIRSTN (in), SMIWDATA (in), SMIWR (in), UDDCNTL (in)

## TSALL
designator U?
Global Tristate Interface; FPGAVendor: Lattice; Published: 4-May-2007; Publisher: Altium Limited; HelpURL: http://www.latticesemi.com/lit/docs/manuals/library.pdf
pins: TSALL (in)

## VHI
designator U?
Logic High Generator; FPGAVendor: Lattice; Published: 4-May-2007; Publisher: Altium Limited; HelpURL: http://www.latticesemi.com/lit/docs/manuals/library.pdf
pins: Z (out)

## VLO
designator U?
Logic Low Generator; FPGAVendor: Lattice; Published: 4-May-2007; Publisher: Altium Limited; HelpURL: http://www.latticesemi.com/lit/docs/manuals/library.pdf
pins: Z (out)

## XNOR2
designator U?
2-Input Exclusive NOR Gate; FPGAVendor: Lattice; Published: 4-May-2007; Publisher: Altium Limited; HelpURL: http://www.latticesemi.com/lit/docs/manuals/library.pdf
pins: A (in), B (in), Z (out)

## XNOR3
designator U?
3-Input Exclusive NOR Gate; FPGAVendor: Lattice; Published: 4-May-2007; Publisher: Altium Limited; HelpURL: http://www.latticesemi.com/lit/docs/manuals/library.pdf
pins: A (in), B (in), C (in), Z (out)

## XNOR4
designator U?
4-Input Exclusive NOR Gate; FPGAVendor: Lattice; Published: 4-May-2007; Publisher: Altium Limited; HelpURL: http://www.latticesemi.com/lit/docs/manuals/library.pdf
pins: A (in), B (in), C (in), D (in), Z (out)

## XNOR5
designator U?
5-Input Exclusive NOR Gate; FPGAVendor: Lattice; Published: 4-May-2007; Publisher: Altium Limited; HelpURL: http://www.latticesemi.com/lit/docs/manuals/library.pdf
pins: A (in), B (in), C (in), D (in), E (in), Z (out)

## XOR2
designator U?
2-Input Exclusive OR Gate; FPGAVendor: Lattice; Published: 4-May-2007; Publisher: Altium Limited; HelpURL: http://www.latticesemi.com/lit/docs/manuals/library.pdf
pins: A (in), B (in), Z (out)

## XOR3
designator U?
3-Input Exclusive OR Gate; FPGAVendor: Lattice; Published: 4-May-2007; Publisher: Altium Limited; HelpURL: http://www.latticesemi.com/lit/docs/manuals/library.pdf
pins: A (in), B (in), C (in), Z (out)

## XOR4
designator U?
4-Input Exclusive OR Gate; FPGAVendor: Lattice; Published: 4-May-2007; Publisher: Altium Limited; HelpURL: http://www.latticesemi.com/lit/docs/manuals/library.pdf
pins: A (in), B (in), C (in), D (in), Z (out)

## XOR5
designator U?
5-Input Exclusive OR Gate; FPGAVendor: Lattice; Published: 4-May-2007; Publisher: Altium Limited; HelpURL: http://www.latticesemi.com/lit/docs/manuals/library.pdf
pins: A (in), B (in), C (in), D (in), E (in), Z (out)

## XOR11
designator U?
11-Input Exclusive OR Gate; FPGAVendor: Lattice; Published: 4-May-2007; Publisher: Altium Limited; HelpURL: http://www.latticesemi.com/lit/docs/manuals/library.pdf
pins: A (in), B (in), C (in), D (in), E (in), F (in), G (in), H (in), I (in), J (in), K (in), Z (out)

## XOR21
designator U?
21-Input Exclusive OR Gate; FPGAVendor: Lattice; Published: 4-May-2007; Publisher: Altium Limited; HelpURL: http://www.latticesemi.com/lit/docs/manuals/library.pdf
pins: A (in), B (in), C (in), D (in), E (in), F (in), G (in), H (in), I (in), J (in), K (in), L (in), M (in), N (in), O (in), P (in), Q (in), R (in), S (in), T (in), U (in), Z (out)